# Altium footprint library HTSSOP48_EP.PcbLib: 1 footprints
Each footprint in its own frame and in the unit in brackets; x right, y up, seen from the top. Pads: shape width x height; smd on the part's side, far side on the other; paste and mask are expansions set on the pad; w line width, h text height; cw(c..) or ccw(c..) is an arc to the next point about the centre after c.
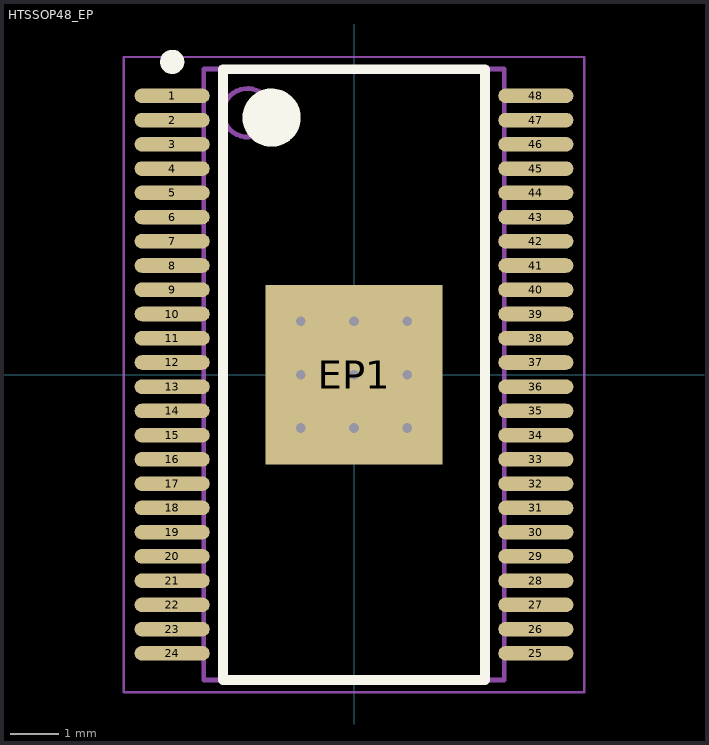
[diagram p0: the footprint, top view; thin cyan lines are the x and y axes]

## HTSSOP48_EP [mm] "TSSOP, 48-Leads, Body 12.50x6.10mm, Pitch 0.50mm, Thermal Pad 3.70x3.65mm, IPC Medium Density"
height 1.2
pads (49):
  oval 1.55x0.3 smd: 1(-3.75,5.75) 2(-3.75,5.25) 3(-3.75,4.75) 4(-3.75,4.25) 5(-3.75,3.75) 6(-3.75,3.25) 7(-3.75,2.75) 8(-3.75,2.25) 9(-3.75,1.75) 10(-3.75,1.25) 11(-3.75,0.75) 12(-3.75,0.25) 13(-3.75,-0.25) 14(-3.75,-0.75) 15(-3.75,-1.25) 16(-3.75,-1.75) 17(-3.75,-2.25) 18(-3.75,-2.75) 19(-3.75,-3.25) 20(-3.75,-3.75) 21(-3.75,-4.25) 22(-3.75,-4.75) 23(-3.75,-5.25) 24(-3.75,-5.75) 25(3.75,-5.75) 26(3.75,-5.25) 27(3.75,-4.75) 28(3.75,-4.25) 29(3.75,-3.75) 30(3.75,-3.25) 31(3.75,-2.75) 32(3.75,-2.25) 33(3.75,-1.75) 34(3.75,-1.25) 35(3.75,-0.75) 36(3.75,-0.25) 37(3.75,0.25) 38(3.75,0.75) 39(3.75,1.25) 40(3.75,1.75) 41(3.75,2.25) 42(3.75,2.75) 43(3.75,3.25) 44(3.75,3.75) 45(3.75,4.25) 46(3.75,4.75) 47(3.75,5.25) 48(3.75,5.75)
  rect 3.65x3.7 smd: EP1(0,0)
via 1.1,-1.1 diameter 0.5 hole 0.2
via 0,-1.1 diameter 0.5 hole 0.2
via -1.1,-1.1 diameter 0.5 hole 0.2
via 1.1,0 diameter 0.5 hole 0.2
via 0,0 diameter 0.5 hole 0.2
via -1.1,0 diameter 0.5 hole 0.2
via 1.1,1.1 diameter 0.5 hole 0.2
via 0,1.1 diameter 0.5 hole 0.2
via -1.1,1.1 diameter 0.5 hole 0.2
Top Overlay:
  circle w0.6: c-1.7,5.3 r0.3
  circle w0.25: c-3.75,6.45 r0.125
  lines w0.2: -2.7,-6.3 2.7,-6.3 2.7,6.3 -2.7,6.3 -2.7,-6.3
Mechanical 13:
  circle w0.1: c-2.2,5.4 r0.5
  lines w0.1: -3.1,-6.3 3.1,-6.3 3.1,6.3 -3.1,6.3 -3.1,-6.3
Mechanical 15:
  lines w0.05: -4.75,-6.55 4.75,-6.55 4.75,6.55 -4.75,6.55 -4.75,-6.55
  lines w0.1: -0.5,0 0.5,0 ; 0,-0.5 0,0.5
Mechanical 17:
  text "'.Designator'" at -0.508,4.826 h0.64
Mechanical 19:
  text "'.Comment'" at -0.508,4.826 h0.64
3D body "TSSOP50P810X120_HS-49N.step": height 1.2, standoff 0, extent -4.05,-6.3 4.05,6.3